# EAGLE library part RESNET_BUS_13 (library kwoo)
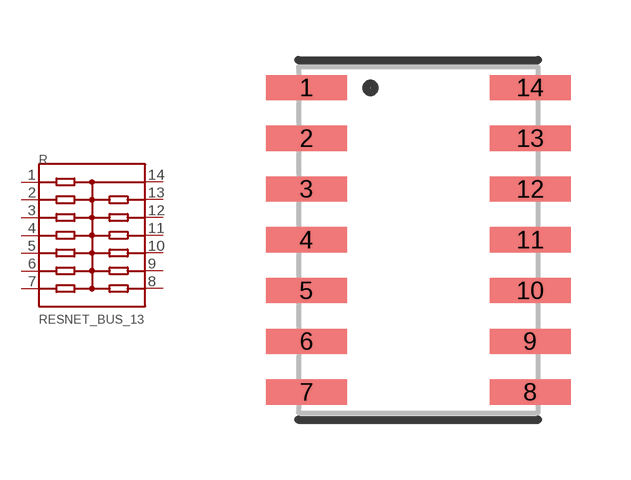
[diagram p31: symbol with the pads of 14-SOIC_CTS; footprint 14-SOIC_CTS]

Designator prefix R

## RESNET_BUS_13  [14-SOIC_CTS]
1  1
2  2
3  3
4  4
5  5
6  6
7  7
8  8
9  9
10  10
11  11
12  12
13  13
14  14

## Footprint 14-SOIC_CTS (pad centres in mm)
14-SOIC CTS This is a non standard variant of the SOIC package for the CTS Electronics Components Resnets series 766.
smd 2.03 x 0.63: 1 -2.8,3.81; 2 -2.8,2.54; 3 -2.8,1.27; 4 -2.8,0; 5 -2.8,-1.27; 6 -2.8,-2.54; 7 -2.8,-3.81; 8 2.8,-3.81; 9 2.8,-2.54; 10 2.8,-1.27; 11 2.8,0; 12 2.8,1.27; 13 2.8,2.54; 14 2.8,3.81